# Altium schematic symbol library BD139.SchLib: 1 symbol
Pins are listed as number, name and electrical type; pins without a type are passive.

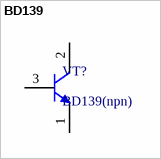
[diagram p0: symbol BD139]

## BD139
designator VT?, comment BD139(npn)
footprint TO-126(bend2)
footprint TO-126
pins: 1 E, 2 C, 3 B